# EAGLE library part TDA8510J/8511J (library Audio-Power-amlifier V.2.0)
The TDA8510J is an integrated class-B output amplifier in a 17-lead single-in-line (SIL) power package. It contains a 26 W Bridge-Tied Load (BTL) amplifier and 2 ´ 13 W Single-Ended (SE) amplifiers. The TDA8511J is an integrated class-B output amplifier in a 17-lead DIL-bent-SIL power package. It contains 4 ´ 13 W single-ended amplifiers.
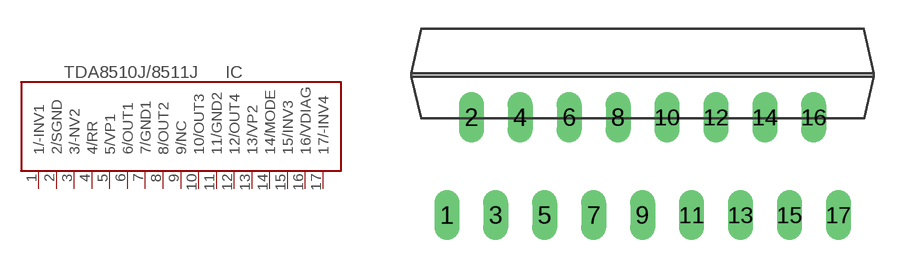
[diagram p201: symbol with the pads of SOT243-1; footprint SOT243-1]

Designator prefix IC

## TDA8510J/8511J  [SOT243-1]
1  1/-INV1  in
2  2/SGND  pwr
3  3/-NV2  in
4  4/RR  in
5  5/VP1  pwr
6  6/OUT1  out
7  7/GND1  pwr
8  8/OUT2  out
9  9/NC  nc
10  10/OUT3  out
11  11/GND2  pwr
12  12/OUT4  out
13  13/VP2  pwr
14  14/MODE  in
15  15/INV3  in
16  16/VDIAG  out
17  17/-INV4  in

## Footprint SOT243-1 (pad centres in mm)
DBS17P: plastic DIL-bent-SIL power package; 17 leads (lead length 7.7 mm)
drill 0.8 long: 1 -10.16,-5.08; 2 -8.89,0; 3 -7.62,-5.08; 4 -6.35,0; 5 -5.08,-5.08; 6 -3.81,0; 7 -2.54,-5.08; 8 -1.27,0; 9 0,-5.08; 10 1.27,0; 11 2.54,-5.08; 12 3.81,0; 13 5.08,-5.08; 14 6.35,0; 15 7.62,-5.08; 16 8.89,0; 17 10.17,-5.08